# Altium footprint library FP-568AL-MFG.PcbLib: 1 footprints
Each footprint in its own frame and in the unit in brackets; x right, y up, seen from the top. Pads: shape width x height; smd on the part's side, far side on the other; paste and mask are expansions set on the pad; w line width, h text height; cw(c..) or ccw(c..) is an arc to the next point about the centre after c.
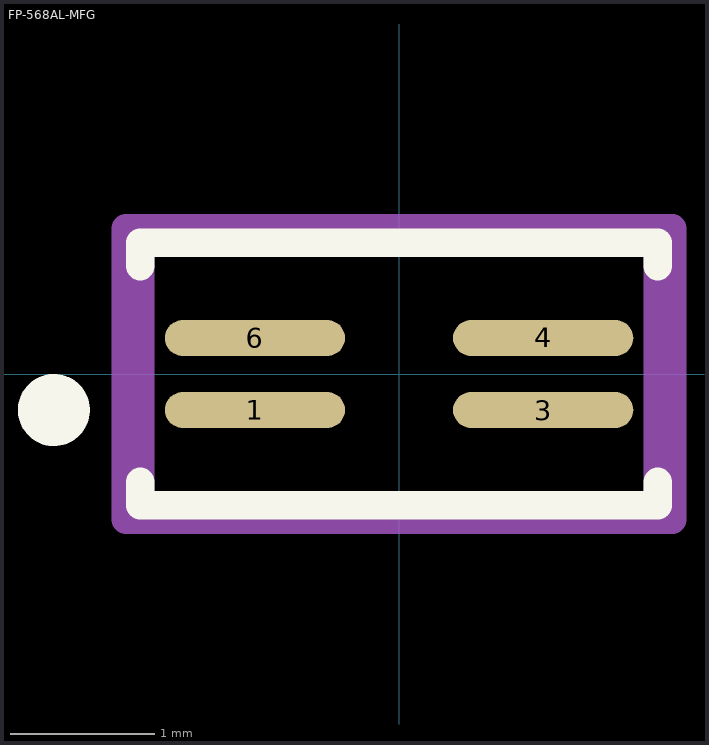
[diagram p0: the footprint, top view; thin cyan lines are the x and y axes]

## FP-568AL-MFG [mm]
pads (4):
  rrect100% 1.25x0.25 smd paste+0 mask+0: 1(-1,-0.25) 3(1,-0.25) 4(1,0.25) 6(-1,0.25)
Top Overlay:
  circle w0.25: c-2.395,-0.25 r0.125
  lines w0.2: -1.795,-0.75 -1.795,-0.91 1.795,-0.91 1.795,-0.75 ; -1.795,0.75 -1.795,0.91 1.795,0.91 1.795,0.75
Top Courtyard:
  lines w0.2: -1.895,-1.01 -1.895,1.01 1.895,1.01 1.895,-1.01 -1.895,-1.01
Top 3D Body (Mech13):
  lines w0.2: -1.795,-0.91 1.795,-0.91 1.795,0.91 -1.795,0.91 -1.795,-0.91
Top Assembly (Mech15):
  lines w0.2: -1.895,-1.01 1.895,-1.01 1.895,1.01 -1.895,1.01 -1.895,-1.01
3D body "Trans_ON_Semiconductor_EFC8811R-TF_eec.STEP": height 0.25, standoff 0, extent -1.895,-1.01 1.895,1.01